# Altium integrated library Operational_Amplifiers.IntLib: 2 symbols
Pins are listed as number, name and electrical type; pins without a type are passive.

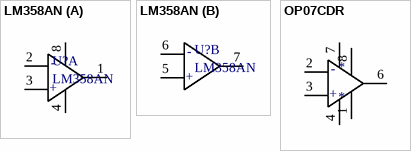
[diagram p0: symbols LM358AN to OP07CDR]

## LM358AN
designator U?
No Description Available; SourceLibrary: StMicro_2011-06-07; Built_By: EMA_UL_Team; Vendor: STMicroelectronics; Manufacturer_Part_Number: LM358AN; Copyright: Copyright (C) 2018 Accelerated Designs. All rights reserved; RefDes: RefDes; Type: DEV
footprint DIP-8_STM
part A pins: 1 OUT, 2 -, 3 +, 4 V-, 8 V+
part B pins: 5 +, 6 -, 7 OUT

## OP07CDR
designator *
footprint SOIC127P600X175-8M (SOIC, 8-Leads, Body 4,91x3,90mm, Pitch 1,27mm, IPC Low Density)
pins: 1 V-, 2 -, 3 +, 4 V-, 5 NC, 6 OUT, 7 V+, 8 V-